# Altium footprint library WR-WTB.PcbLib: 259 footprints (part 10 of 17)
Each footprint in its own frame and in the unit in brackets; x right, y up, seen from the top. Pads: shape width x height; smd on the part's side, far side on the other; paste and mask are expansions set on the pad; w line width, h text height; cw(c..) or ccw(c..) is an arc to the next point about the centre after c.
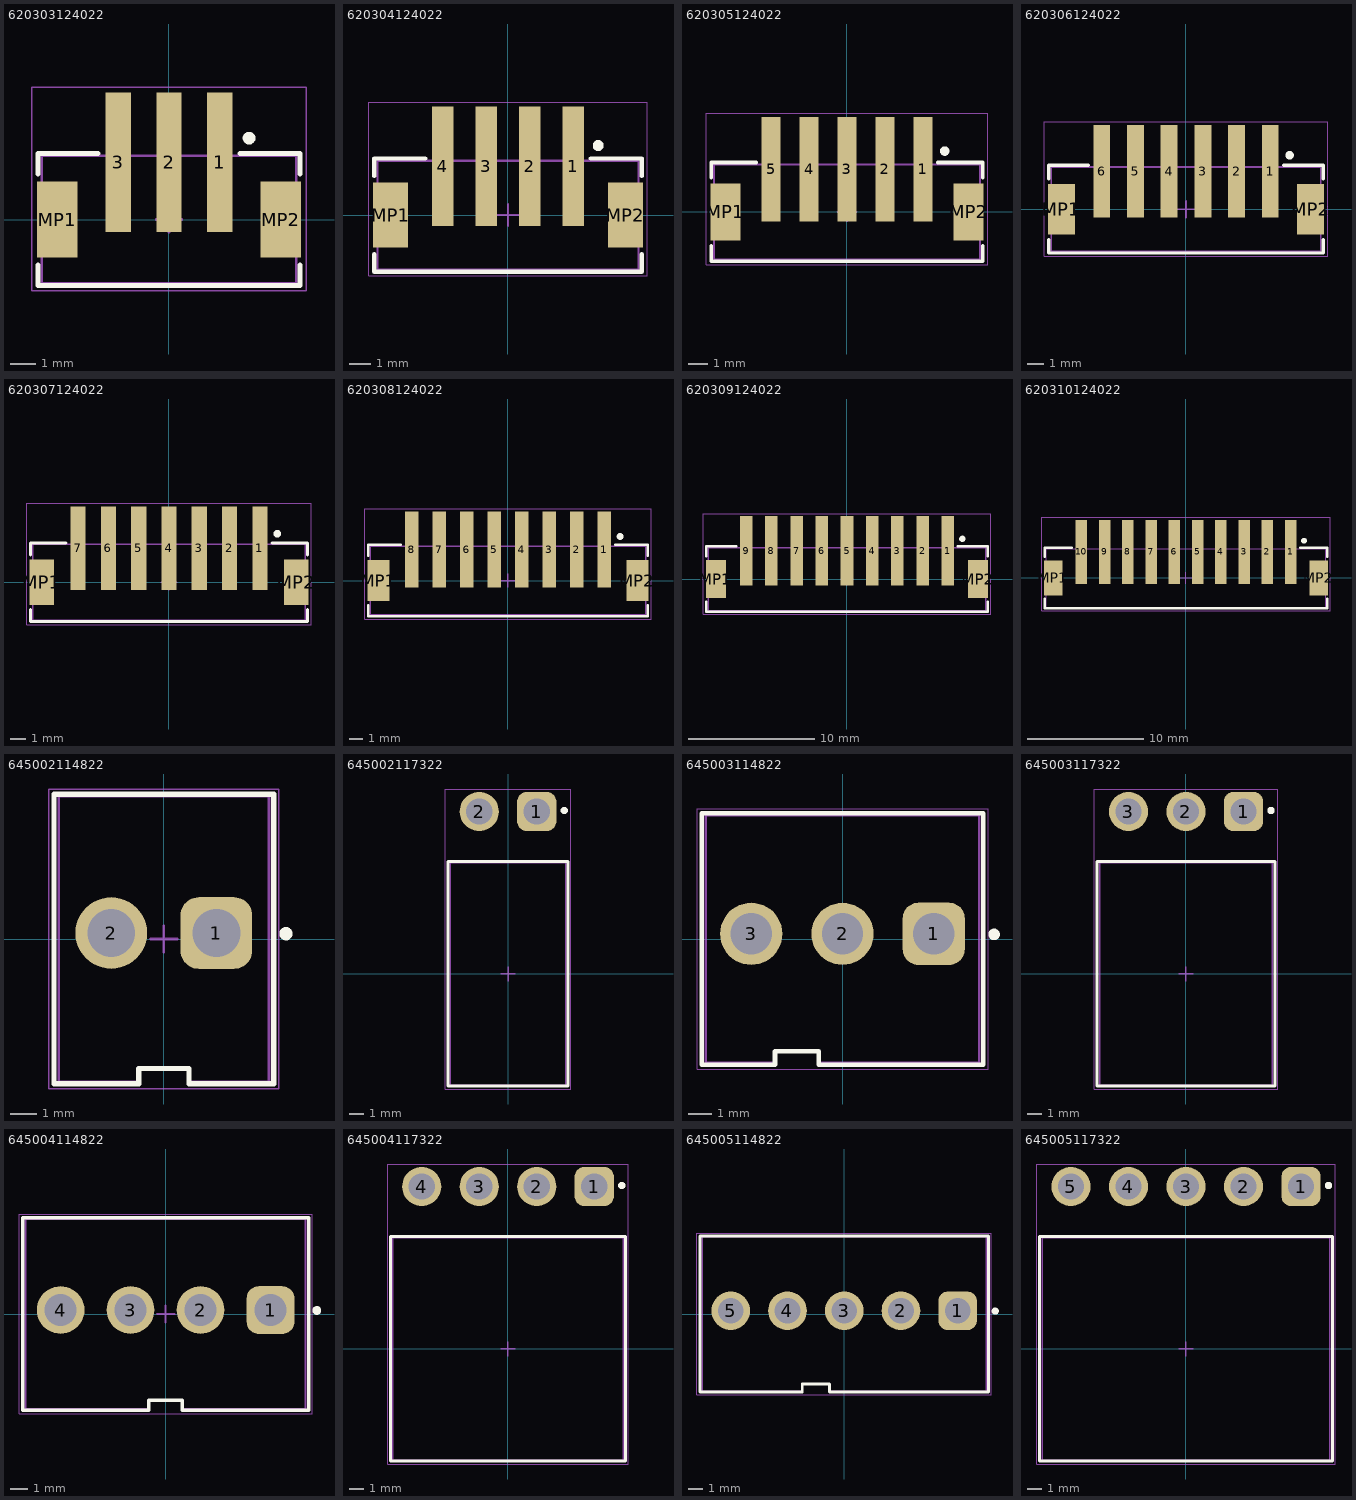
[diagram p9: the footprints below, top view; thin cyan lines are the x and y axes]

## 620303124022 [mm] "2.00mm SMT Male Vertical Shrouded Header, 3p"
height 6.86
pads (5):
  rect 1x5.5 smd: 1(2,2.25) 2(0,2.25) 3(-2,2.25)
  rect 1.6x3 smd: MP1(-4.4,0) MP2(4.4,0)
Top Overlay:
  circle w0.25: c3.15,3.2 r0.125
  lines w0.2: -5.15,-1.8 -5.15,-2.6 5.15,-2.6 5.15,-1.8 ; -5.15,1.8 -5.15,2.6 -2.8,2.6 ; 2.8,2.6 5.15,2.6 5.15,1.8
Top Assembly:
  lines w0.1: -5,-2.5 5,-2.5 5,2.5 -5,2.5 -5,-2.5
Top Designator:
  text ".Designator" at -3.647,-0.357 h1
Top Courtyard:
  lines w0.05: -5.4,-2.8 -5.4,5.2 5.4,5.2 5.4,-2.8 -5.4,-2.8
Top Component Center:
  lines w0.1: -0.5,0 0.5,0 ; 0,-0.5 0,0.5
3D body "620303124022.stp": height 6.77, standoff -0.01, extent -5,-2.5 5,4.51

## 620304124022 [mm] "2.00mm SMT Male Vertical Shrouded Header, 4p"
height 6.86
pads (6):
  rect 1x5.5 smd: 1(3,2.25) 2(1,2.25) 3(-1,2.25) 4(-3,2.25)
  rect 1.6x3 smd: MP1(-5.4,0) MP2(5.4,0)
Top Overlay:
  circle w0.25: c4.15,3.2 r0.125
  lines w0.2: -6.15,-1.8 -6.15,-2.6 6.15,-2.6 6.15,-1.8 ; -6.15,1.8 -6.15,2.6 -3.8,2.6 ; 3.8,2.6 6.15,2.6 6.15,1.8
Top Assembly:
  lines w0.1: 6,-2.5 6,2.5 -6,2.5 -6,-2.5 6,-2.5
Top Designator:
  text ".Designator" at -3.647,-0.357 h1
Top Courtyard:
  lines w0.05: -6.4,-2.8 -6.4,5.2 6.4,5.2 6.4,-2.8 -6.4,-2.8
Top Component Center:
  lines w0.1: -0.5,0 0.5,0 ; 0,-0.5 0,0.5
3D body "620304124022.stp": height 6.77, standoff -0.01, extent -6,-2.5 6,4.51

## 620305124022 [mm] "2.00mm SMT Male Vertical Shrouded Header, 5p"
height 6.86
pads (7):
  rect 1x5.5 smd: 1(4,2.25) 2(2,2.25) 3(0,2.25) 4(-2,2.25) 5(-4,2.25)
  rect 1.6x3 smd: MP1(-6.4,0) MP2(6.4,0)
Top Overlay:
  circle w0.25: c5.15,3.2 r0.125
  lines w0.2: -7.15,-1.8 -7.15,-2.6 7.15,-2.6 7.15,-1.8 ; -7.15,1.8 -7.15,2.6 -4.8,2.6 ; 4.8,2.6 7.15,2.6 7.15,1.8
Top Assembly:
  lines w0.1: -7,-2.5 7,-2.5 7,2.5 -7,2.5 -7,-2.5
Top Designator:
  text ".Designator" at -3.647,-0.357 h1
Top Courtyard:
  lines w0.05: -7.4,-2.8 -7.4,5.2 7.4,5.2 7.4,-2.8 -7.4,-2.8
Top Component Center:
  lines w0.1: -0.5,0 0.5,0 ; 0,-0.5 0,0.5
3D body "620305124022.stp": height 6.77, standoff -0.01, extent -7,-2.5 7,4.51

## 620306124022 [mm] "2.00mm SMT Male Vertical Shrouded Header, 6p"
height 6.86
pads (8):
  rect 1x5.5 smd: 1(5,2.25) 2(3,2.25) 3(1,2.25) 4(-1,2.25) 5(-3,2.25) 6(-5,2.25)
  rect 1.6x3 smd: MP1(-7.4,0) MP2(7.4,0)
Top Overlay:
  circle w0.25: c6.15,3.2 r0.125
  lines w0.2: -8.15,-1.8 -8.15,-2.6 8.15,-2.6 8.15,-1.8 ; -8.15,1.8 -8.15,2.6 -5.8,2.6 ; 5.8,2.6 8.15,2.6 8.15,1.8
Top Assembly:
  lines w0.1: -8,-2.5 8,-2.5 8,2.5 -8,2.5 -8,-2.5
Top Designator:
  text ".Designator" at -3.647,-0.357 h1
Top Courtyard:
  lines w0.05: -8.4,-2.8 -8.4,5.2 8.4,5.2 8.4,-2.8 -8.4,-2.8
Top Component Center:
  lines w0.1: -0.5,0 0.5,0 ; 0,-0.5 0,0.5
3D body "620306124022.stp": height 6.77, standoff -0.01, extent -8,-2.5 8,4.51

## 620307124022 [mm] "2.00mm SMT Male Vertical Shrouded Header, 7p"
height 6.86
pads (9):
  rect 1x5.5 smd: 1(6,2.25) 2(4,2.25) 3(2,2.25) 4(0,2.25) 5(-2,2.25) 6(-4,2.25) 7(-6,2.25)
  rect 1.6x3 smd: MP1(-8.4,0) MP2(8.4,0)
Top Overlay:
  circle w0.25: c7.15,3.2 r0.125
  lines w0.2: -9.15,-1.8 -9.15,-2.6 9.15,-2.6 9.15,-1.8 ; -9.15,1.8 -9.15,2.6 -6.8,2.6 ; 6.8,2.6 9.15,2.6 9.15,1.8
Top Assembly:
  lines w0.1: -9,-2.5 9,-2.5 9,2.5 -9,2.5 -9,-2.5
Top Designator:
  text ".Designator" at -3.647,-0.357 h1
Top Courtyard:
  lines w0.05: -9.4,-2.8 -9.4,5.2 9.4,5.2 9.4,-2.8 -9.4,-2.8
Top Component Center:
  lines w0.1: -0.5,0 0.5,0 ; 0,-0.5 0,0.5
3D body "620307124022.stp": height 6.77, standoff -0.01, extent -9,-2.5 9,4.51

## 620308124022 [mm] "2.00mm SMT Male Vertical Shrouded Header, 8p"
height 6.86
pads (10):
  rect 1x5.5 smd: 1(7,2.25) 2(5,2.25) 3(3,2.25) 4(1,2.25) 5(-1,2.25) 6(-3,2.25) 7(-5,2.25) 8(-7,2.25)
  rect 1.6x3 smd: MP1(-9.4,0) MP2(9.4,0)
Top Overlay:
  circle w0.25: c8.15,3.2 r0.125
  lines w0.2: -10.15,-1.8 -10.15,-2.6 10.15,-2.6 10.15,-1.8 ; -10.15,1.8 -10.15,2.6 -7.8,2.6 ; 7.8,2.6 10.15,2.6 10.15,1.8
Top Assembly:
  lines w0.1: -10,-2.5 -10,2.5 10,2.5 10,-2.5 -10,-2.5
Top Designator:
  text ".Designator" at -3.647,-0.357 h1
Top Courtyard:
  lines w0.05: -10.4,-2.8 10.4,-2.8 10.4,5.2 -10.4,5.2 -10.4,-2.8
Top Component Center:
  lines w0.1: -0.5,0 0.5,0 ; 0,-0.5 0,0.5
3D body "620308124022.stp": height 6.77, standoff -0.01, extent -10,-2.5 10,4.51

## 620309124022 [mm] "2.00mm SMT Male Vertical Shrouded Header, 9p"
height 6.86
pads (11):
  rect 1x5.5 smd: 1(8,2.25) 2(6,2.25) 3(4,2.25) 4(2,2.25) 5(0,2.25) 6(-2,2.25) 7(-4,2.25) 8(-6,2.25) 9(-8,2.25)
  rect 1.6x3 smd: MP1(-10.4,0) MP2(10.4,0)
Top Overlay:
  circle w0.25: c9.15,3.2 r0.125
  lines w0.2: -11.15,-1.8 -11.15,-2.6 11.15,-2.6 11.15,-1.8 ; -11.15,1.8 -11.15,2.6 -8.8,2.6 ; 8.8,2.6 11.15,2.6 11.15,1.8
Top Assembly:
  lines w0.1: 11,-2.5 11,2.5 -11,2.5 -11,-2.5 11,-2.5
Top Designator:
  text ".Designator" at -3.647,-0.357 h1
Top Courtyard:
  lines w0.05: -11.4,-2.8 -11.4,5.2 11.4,5.2 11.4,-2.8 -11.4,-2.8
Top Component Center:
  lines w0.1: -0.5,0 0.5,0 ; 0,-0.5 0,0.5
3D body "620309124022.stp": height 6.77, standoff -0.01, extent -11,-2.5 11,4.51

## 620310124022 [mm] "2.00mm SMT Male Vertical Shrouded Header, 10p"
height 6.86
pads (12):
  rect 1x5.5 smd: 1(9,2.25) 2(7,2.25) 3(5,2.25) 4(3,2.25) 5(1,2.25) 6(-1,2.25) 7(-3,2.25) 8(-5,2.25) 9(-7,2.25) 10(-9,2.25)
  rect 1.6x3 smd: MP1(-11.4,0) MP2(11.4,0)
Top Overlay:
  circle w0.25: c10.15,3.2 r0.125
  lines w0.2: -12.15,-1.8 -12.15,-2.6 12.15,-2.6 12.15,-1.8 ; -12.15,1.8 -12.15,2.6 -9.8,2.6 ; 9.8,2.6 12.15,2.6 12.15,1.8
Top Assembly:
  lines w0.1: -12,-2.5 -12,2.5 12,2.5 12,-2.5 -12,-2.5
Top Designator:
  text ".Designator" at -3.647,-0.357 h1
Top Courtyard:
  lines w0.05: -12.4,-2.8 12.4,-2.8 12.4,5.2 -12.4,5.2 -12.4,-2.8
Top Component Center:
  lines w0.1: -0.5,0 0.5,0 ; 0,-0.5 0,0.5
3D body "620310124022.stp": height 6.77, standoff -0.01, extent -12,-2.5 12,4.51

## 645002114822 [mm] "3.96mm Male Locking Header, 2p"
height 13.85
pads (2):
  rrect50% 2.7x2.7 hole 1.8: 1(1.98,0.225)
  round 2.7 hole 1.8: 2(-1.98,0.225)
Top Overlay:
  circle w0.25: c4.6,0.2 r0.125
  lines w0.2: -4.135,-5.45 -4.135,5.45 4.135,5.45 4.135,-5.45 0.95,-5.45 0.95,-4.875 -0.95,-4.875 -0.95,-5.45 -4.135,-5.45
Top Assembly:
  lines w0.1: -3.96,-5.375 -0.95,-5.375 -0.95,-4.875 0.95,-4.875 0.95,-5.375 3.96,-5.375 3.96,5.375 -3.96,5.375 -3.96,-5.375
Top Designator:
  text ".Designator" at -3.647,-0.357 h1
Top Courtyard:
  lines w0.05: -4.335,-5.65 4.335,-5.65 4.335,5.65 -4.335,5.65 -4.335,-5.65
Top Component Center:
  lines w0.1: -0.5,0 0.5,0 ; 0,-0.5 0,0.5
3D body "645002114822.stp": height 13.89, standoff -3.56, extent -4.015,-5.375 4.015,5.375

## 645002117322 [mm] "3.96mm Male Right Angled Locking Header, 2p"
height 15.3
pads (2):
  rrect50% 2.7x2.7 hole 1.8: 1(1.98,11.18)
  round 2.7 hole 1.8: 2(-1.98,11.18)
Top Overlay:
  circle w0.25: c3.875,11.25 r0.125
  lines w0.2: -4.135,-7.725 4.135,-7.725 4.135,7.725 -4.135,7.725 -4.135,-7.725
Top Assembly:
  lines w0.1: -3.96,-7.65 -3.96,7.65 3.96,7.65 3.96,-7.65 -3.96,-7.65
Top Designator:
  text ".Designator" at -3.647,-0.357 h1
Top Courtyard:
  lines w0.05: -4.335,-7.925 -4.335,12.73 4.335,12.73 4.335,-7.925 -4.335,-7.925
Top Component Center:
  lines w0.1: -0.5,0 0.5,0 ; 0,-0.5 0,0.5
3D body "645002117322.stp": height 10.79, standoff -3.63, extent -4.015,-7.65 4.015,11.8

## 645003114822 [mm] "3.96mm Male Locking Header, 3p"
height 13.85
pads (3):
  rrect50% 2.7x2.7 hole 1.8: 1(3.96,0.225)
  round 2.7 hole 1.8: 2(0,0.225) 3(-3.96,0.225)
Top Overlay:
  circle w0.25: c6.58,0.2 r0.125
  lines w0.2: -6.115,-5.45 -2.93,-5.45 -2.93,-4.875 -1.03,-4.875 -1.03,-5.45 6.115,-5.45 6.115,5.45 -6.115,5.45 -6.115,-5.45
Top Assembly:
  lines w0.1: -5.94,-5.375 -5.94,5.375 5.94,5.375 5.94,-5.375 -1.03,-5.375 -1.03,-4.875 -2.93,-4.875 -2.93,-5.375 -5.94,-5.375
Top Designator:
  text ".Designator" at -3.647,-0.357 h1
Top Courtyard:
  lines w0.05: -6.315,-5.65 -6.315,5.65 6.315,5.65 6.315,-5.65 -6.315,-5.65
Top Component Center:
  lines w0.1: -0.5,0 0.5,0 ; 0,-0.5 0,0.5
3D body "645003114822.stp": height 13.89, standoff -3.56, extent -5.995,-5.375 5.995,5.375

## 645003117322 [mm] "3.96mm Male Right Angled Locking Header, 3p"
height 15.3
pads (3):
  rrect50% 2.7x2.7 hole 1.8: 1(3.96,11.18)
  round 2.7 hole 1.8: 2(0,11.18) 3(-3.96,11.18)
Top Overlay:
  circle w0.25: c5.855,11.25 r0.125
  lines w0.2: -6.115,-7.725 -6.115,7.725 6.115,7.725 6.115,-7.725 -6.115,-7.725
Top Assembly:
  lines w0.1: -5.94,-7.65 5.94,-7.65 5.94,7.65 -5.94,7.65 -5.94,-7.65
Top Designator:
  text ".Designator" at -3.647,-0.357 h1
Top Courtyard:
  lines w0.05: -6.315,-7.925 6.315,-7.925 6.315,12.73 -6.315,12.73 -6.315,-7.925
Top Component Center:
  lines w0.1: -0.5,0 0.5,0 ; 0,-0.5 0,0.5
3D body "645003117322.stp": height 10.79, standoff -3.63, extent -5.995,-7.65 5.995,11.8

## 645004114822 [mm] "3.96mm Male Locking Header, 4p"
height 13.85
pads (4):
  rrect50% 2.7x2.7 hole 1.8: 1(5.94,0.225)
  round 2.7 hole 1.8: 2(1.98,0.225) 3(-1.98,0.225) 4(-5.94,0.225)
Top Overlay:
  circle w0.25: c8.56,0.2 r0.125
  lines w0.2: -8.095,-5.45 -0.95,-5.45 -0.95,-4.875 0.95,-4.875 0.95,-5.45 8.095,-5.45 8.095,5.45 -8.095,5.45 -8.095,-5.45
Top Assembly:
  lines w0.1: -7.92,-5.375 -7.92,5.375 7.92,5.375 7.92,-5.375 0.95,-5.375 0.95,-4.875 -0.95,-4.875 -0.95,-5.375 -7.92,-5.375
Top Designator:
  text ".Designator" at -3.647,-0.357 h1
Top Courtyard:
  lines w0.05: -8.295,-5.65 -8.295,5.65 8.295,5.65 8.295,-5.65 -8.295,-5.65
Top Component Center:
  lines w0.1: -0.5,0 0.5,0 ; 0,-0.5 0,0.5
3D body "645004114822.stp": height 13.89, standoff -3.56, extent -7.975,-5.375 7.975,5.375

## 645004117322 [mm] "3.96mm Male Right Angled Locking Header, 4p"
height 15.3
pads (4):
  rrect50% 2.7x2.7 hole 1.8: 1(5.94,11.18)
  round 2.7 hole 1.8: 2(1.98,11.18) 3(-1.98,11.18) 4(-5.94,11.18)
Top Overlay:
  circle w0.25: c7.835,11.25 r0.125
  lines w0.2: -8.095,-7.725 8.095,-7.725 8.095,7.725 -8.095,7.725 -8.095,-7.725
Top Assembly:
  lines w0.1: -7.92,-7.65 -7.92,7.65 7.92,7.65 7.92,-7.65 -7.92,-7.65
Top Designator:
  text ".Designator" at -3.647,-0.357 h1
Top Courtyard:
  lines w0.05: -8.295,-7.925 -8.295,12.73 8.295,12.73 8.295,-7.925 -8.295,-7.925
Top Component Center:
  lines w0.1: -0.5,0 0.5,0 ; 0,-0.5 0,0.5
3D body "645004117322.stp": height 10.79, standoff -3.63, extent -7.975,-7.65 7.975,11.8

## 645005114822 [mm] "3.96mm Male Locking Header, 5p"
height 13.85
pads (5):
  rrect50% 2.7x2.7 hole 1.8: 1(7.92,0.225)
  round 2.7 hole 1.8: 2(3.96,0.225) 3(0,0.225) 4(-3.96,0.225) 5(-7.92,0.225)
Top Overlay:
  circle w0.25: c10.54,0.2 r0.125
  lines w0.2: -10.075,-5.45 -2.93,-5.45 -2.93,-4.875 -1.03,-4.875 -1.03,-5.45 10.075,-5.45 10.075,5.45 -10.075,5.45 -10.075,-5.45
Top Assembly:
  lines w0.1: -9.9,-5.375 -9.9,5.375 9.9,5.375 9.9,-5.375 -1.03,-5.375 -1.03,-4.875 -2.93,-4.875 -2.93,-5.375 -9.9,-5.375
Top Designator:
  text ".Designator" at -3.647,-0.357 h1
Top Courtyard:
  lines w0.05: -10.275,-5.65 -10.275,5.65 10.275,5.65 10.275,-5.65 -10.275,-5.65
Top Component Center:
  lines w0.1: -0.5,0 0.5,0 ; 0,-0.5 0,0.5
3D body "645005114822.stp": height 13.89, standoff -3.56, extent -9.955,-5.375 9.955,5.375

## 645005117322 [mm] "3.96mm Male Right Angled Locking Header, 5p"
height 15.3
pads (5):
  rrect50% 2.7x2.7 hole 1.8: 1(7.92,11.18)
  round 2.7 hole 1.8: 2(3.96,11.18) 3(0,11.18) 4(-3.96,11.18) 5(-7.92,11.18)
Top Overlay:
  circle w0.25: c9.815,11.25 r0.125
  lines w0.2: -10.075,-7.725 -10.075,7.725 10.075,7.725 10.075,-7.725 -10.075,-7.725
Top Assembly:
  lines w0.1: -9.9,-7.65 9.9,-7.65 9.9,7.65 -9.9,7.65 -9.9,-7.65
Top Designator:
  text ".Designator" at -3.647,-0.357 h1
Top Courtyard:
  lines w0.05: -10.275,-7.925 10.275,-7.925 10.275,12.73 -10.275,12.73 -10.275,-7.925
Top Component Center:
  lines w0.1: -0.5,0 0.5,0 ; 0,-0.5 0,0.5
3D body "645005117322.stp": height 10.79, standoff -3.63, extent -9.955,-7.65 9.955,11.8